# Altium footprint library CONN-SPE_MOLEX_53378-0471.PcbLib: 1 footprints
Each footprint in its own frame and in the unit in brackets; x right, y up, seen from the top. Pads: shape width x height; smd on the part's side, far side on the other; paste and mask are expansions set on the pad; w line width, h text height; cw(c..) or ccw(c..) is an arc to the next point about the centre after c.
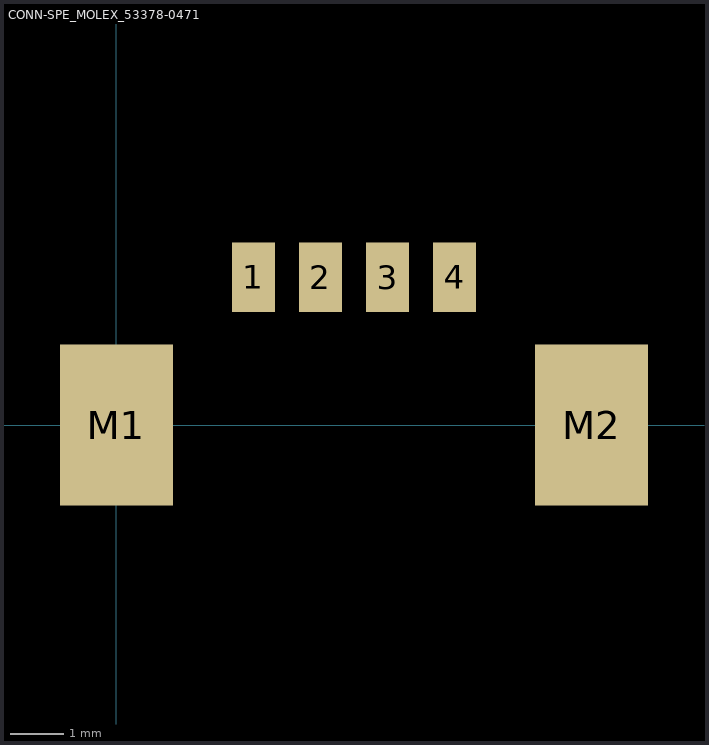
[diagram p0: the footprint, top view; thin cyan lines are the x and y axes]

## CONN-SPE_MOLEX_53378-0471 [mm]
pads (6):
  rect 0.8x1.3 smd: 1(2.55,2.75) 2(3.8,2.75) 3(5.05,2.75) 4(6.3,2.75)
  rect 2.1x3 smd: M1(0,0) M2(8.85,0)
3D body: height 4.65, standoff -0.05, extent -0.63,-1.012 9.52,3.188